# EAGLE library part PIC32MX440F512H (library atmega328pb_tqfn)
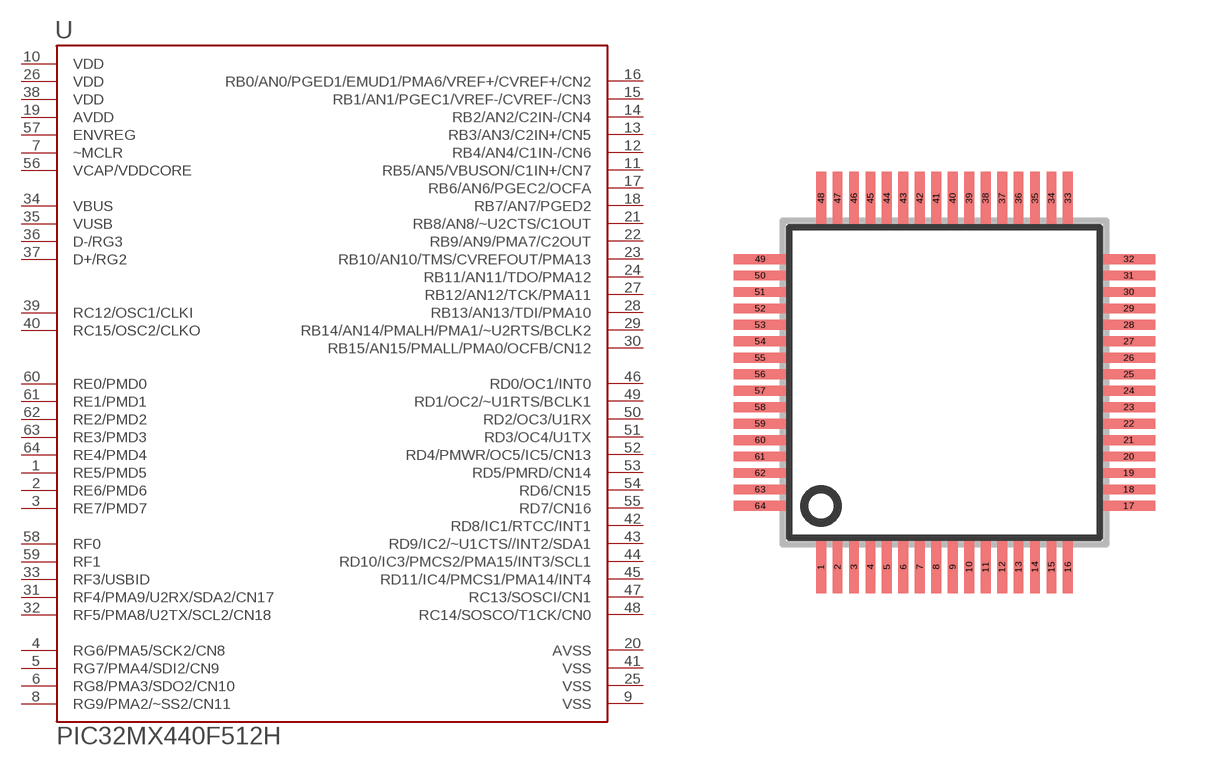
[diagram p55: symbol with the pads of SQFP-S-10X10-64; footprint SQFP-S-10X10-64]

Designator prefix -

## PIC32MX440F512H  [SQFP-S-10X10-64]
1  RE5/PMD5
2  RE6/PMD6
3  RE7/PMD7
4  RG6/PMA5/SCK2/CN8
5  RG7/PMA4/SDI2/CN9
6  RG8/PMA3/SDO2/CN10
7  ~MCLR
8  RG9/PMA2/~SS2/CN11
9  VSS
10  VDD
11  RB5/AN5/VBUSON/C1IN+/CN7
12  RB4/AN4/C1IN-/CN6
13  RB3/AN3/C2IN+/CN5
14  RB2/AN2/C2IN-/CN4
15  RB1/AN1/PGEC1/VREF-/CVREF-/CN3
16  RB0/AN0/PGED1/EMUD1/PMA6/VREF+/CVREF+/CN2
17  RB6/AN6/PGEC2/OCFA
18  RB7/AN7/PGED2
19  AVDD
20  AVSS
21  RB8/AN8/~U2CTS/C1OUT
22  RB9/AN9/PMA7/C2OUT
23  RB10/AN10/TMS/CVREFOUT/PMA13
24  RB11/AN11/TDO/PMA12
25  VSS
26  VDD
27  RB12/AN12/TCK/PMA11
28  RB13/AN13/TDI/PMA10
29  RB14/AN14/PMALH/PMA1/~U2RTS/BCLK2
30  RB15/AN15/PMALL/PMA0/OCFB/CN12
31  RF4/PMA9/U2RX/SDA2/CN17
32  RF5/PMA8/U2TX/SCL2/CN18
33  RF3/USBID
34  VBUS
35  VUSB
36  D-/RG3
37  D+/RG2
38  VDD
39  RC12/OSC1/CLKI
40  RC15/OSC2/CLKO
41  VSS
42  RD8/IC1/RTCC/INT1
43  RD9/IC2/~U1CTS//INT2/SDA1
44  RD10/IC3/PMCS2/PMA15/INT3/SCL1
45  RD11/IC4/PMCS1/PMA14/INT4
46  RD0/OC1/INT0
47  RC13/SOSCI/CN1
48  RC14/SOSCO/T1CK/CN0
49  RD1/OC2/~U1RTS/BCLK1
50  RD2/OC3/U1RX
51  RD3/OC4/U1TX
52  RD4/PMWR/OC5/IC5/CN13
53  RD5/PMRD/CN14
54  RD6/CN15
55  RD7/CN16
56  VCAP/VDDCORE
57  ENVREG
58  RF0
59  RF1
60  RE0/PMD0
61  RE1/PMD1
62  RE2/PMD2
63  RE3/PMD3
64  RE4/PMD4

## Footprint SQFP-S-10X10-64 (pad centres in mm)
QFP64 shrink quad flat pack, square
smd 0.3 x 1.6: 1 -3.75,-5.6; 2 -3.25,-5.6; 3 -2.75,-5.6; 4 -2.25,-5.6; 5 -1.75,-5.6; 6 -1.25,-5.6; 7 -0.75,-5.6; 8 -0.25,-5.6; 9 0.25,-5.6; 10 0.75,-5.6; 11 1.25,-5.6; 12 1.75,-5.6; 13 2.25,-5.6; 14 2.75,-5.6; 15 3.25,-5.6; 16 3.75,-5.6; 33 3.75,5.6; 34 3.25,5.6; 35 2.75,5.6; 36 2.25,5.6; 37 1.75,5.6; 38 1.25,5.6; 39 0.75,5.6; 40 0.25,5.6; 41 -0.25,5.6; 42 -0.75,5.6; 43 -1.25,5.6; 44 -1.75,5.6; 45 -2.25,5.6; 46 -2.75,5.6; 47 -3.25,5.6; 48 -3.75,5.6
smd 1.6 x 0.3: 17 5.6,-3.75; 18 5.6,-3.25; 19 5.6,-2.75; 20 5.6,-2.25; 21 5.6,-1.75; 22 5.6,-1.25; 23 5.6,-0.75; 24 5.6,-0.25; 25 5.6,0.25; 26 5.6,0.75; 27 5.6,1.25; 28 5.6,1.75; 29 5.6,2.25; 30 5.6,2.75; 31 5.6,3.25; 32 5.6,3.75; 49 -5.6,3.75; 50 -5.6,3.25; 51 -5.6,2.75; 52 -5.6,2.25; 53 -5.6,1.75; 54 -5.6,1.25; 55 -5.6,0.75; 56 -5.6,0.25; 57 -5.6,-0.25; 58 -5.6,-0.75; 59 -5.6,-1.25; 60 -5.6,-1.75; 61 -5.6,-2.25; 62 -5.6,-2.75; 63 -5.6,-3.25; 64 -5.6,-3.75